# Altium footprint library Boost_lib.PcbLib: 4 footprints
Each footprint in its own frame and in the unit in brackets; x right, y up, seen from the top. Pads: shape width x height; smd on the part's side, far side on the other; paste and mask are expansions set on the pad; w line width, h text height; cw(c..) or ccw(c..) is an arc to the next point about the centre after c.
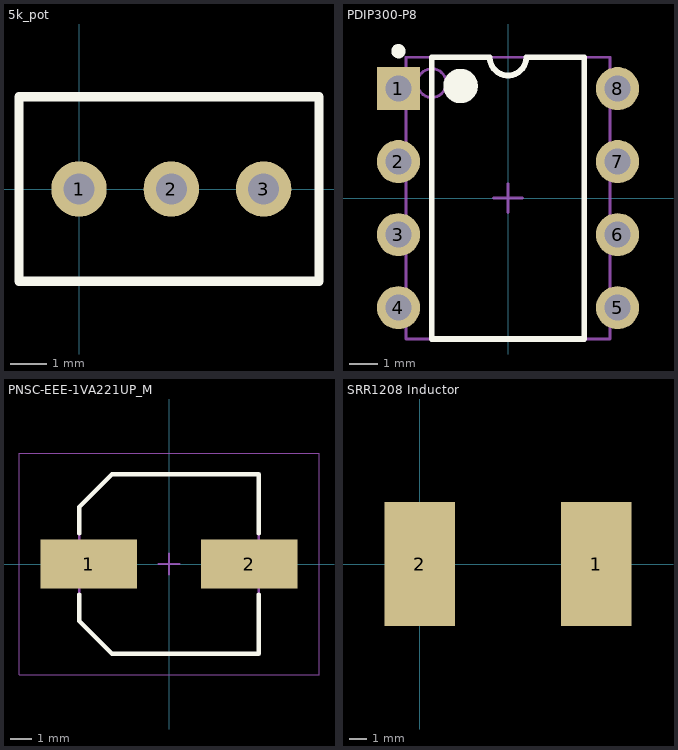
[diagram p0: the footprints below, top view; thin cyan lines are the x and y axes]

## 5k_pot [mil] "3296W-1-505LF"
pads (3):
  round 60 hole 33.46: 1(0,0) 2(100,0) 3(200,0)
Top Overlay:
  lines w10: -65,-100 260,-100 260,100 -65,100 -65,0 -65,-100

## PDIP300-P8 [mm] "8-Pin Plastic Dual In-Line Package (PDIP)"
height 5.34
pads (8):
  rect 1.5x1.5 hole 0.9: 1(-3.81,3.81)
  round 1.5 hole 0.9: 2(-3.81,1.27) 3(-3.81,-1.27) 4(-3.81,-3.81) 5(3.81,-3.81) 6(3.81,-1.27) 7(3.81,1.27) 8(3.81,3.81)
Top Overlay:
  circle w0.6: c-1.65,3.9 r0.3
  circle w0.25: c-3.81,5.11 r0.125
  lines w0.2: -2.65,-4.9 2.65,-4.9 2.65,4.9 0.635,4.9 cw(c0,4.9) -0.635,4.9 -2.65,4.9 -2.65,-4.9
Mechanical 13:
  circle w0.1: c-2.65,4 r0.5
  lines w0.1: -3.55,-4.9 3.55,-4.9 3.55,4.9 -3.55,4.9 -3.55,-4.9
Mechanical 15:
  lines w0.1: -0.5,0 0.5,0 ; 0,-0.5 0,0.5
3D body: height 4.32, standoff 0, extent -3.55,-4.9 3.55,4.9

## PNSC-EEE-1VA221UP_M [mm] "CAPAE, 2-Leads, Body 8.5x8.5mm, IPC Low Density"
height 10.5
pads (2):
  rect 4.55x2.3 smd: 1(-3.8,0) 2(3.8,0)
Top Overlay:
  lines w0.2: -4.25,-1.45 -4.25,-2.7 -2.7,-4.25 4.25,-4.25 4.25,-1.45 ; -4.25,1.45 -4.25,2.7 -2.7,4.25 4.25,4.25 4.25,1.45
Mechanical 13:
  lines w0.1: -4.25,-2.7 -4.25,2.7 -2.7,4.25 4.25,4.25 4.25,-4.25 -2.7,-4.25 -4.25,-2.7
Mechanical 15:
  lines w0.05: -7.1,-5.25 7.1,-5.25 7.1,5.25 -7.1,5.25 -7.1,-5.25
  lines w0.1: -0.5,0 0.5,0 ; 0,-0.5 0,0.5
3D body "CAPAE10083X105M.step": height 10.5, standoff 0, extent -5,-4.25 5,4.25

## SRR1208 Inductor [mm]
pads (2):
  rect 4x7 smd: 1(10,0) 2(0,0)
3D body "User Library-SRR1208.STEP": height 8.4, standoff -0.09, extent -1.27,-6.35 11.43,6.35